# EAGLE library part INA219-SO8 (library INA219 )
INA219 Bi-Directional CURRENT/POWER MONITOR with I2C™ Interface http://www.ti.com/lit/ds/symlink/ina219.pdf
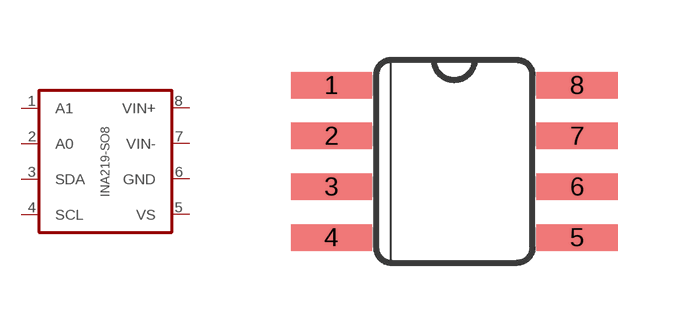
[diagram p1: symbol with the pads of SO08; footprint SO08]

Designator prefix IC

## INA219-SO8D  [SO08]
1  A1  in
2  A0  in
3  SDA
4  SCL
5  VS  pwr
6  GND  pwr
7  VIN-  in
8  VIN+  in

## Footprint SO08 (pad centres in mm)
smd 2.032 x 0.66: 1 -3.073,1.905; 2 -3.073,0.635; 3 -3.073,-0.635; 4 -3.073,-1.905; 5 3.073,-1.905; 6 3.073,-0.635; 7 3.073,0.635; 8 3.073,1.905